# Altium integrated library BatteryHolderCR2032_1053.IntLib: 1 symbol
Pins are listed as number, name and electrical type; pins without a type are passive.

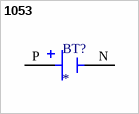
[diagram p0: symbol 1053]

## 1053
designator BT?
MP: 1053; Availability: Unavailable; Package: None; Price: None; Value: *
footprint BAT_1053
pins: N NEG, P POS